# Altium schematic symbol library TC1264-3.3VDB.SchLib: 1 symbol
Pins are listed as number, name and electrical type; pins without a type are passive.

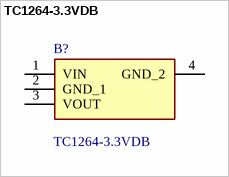
[diagram p0: symbol TC1264-3.3VDB]

## TC1264-3.3VDB
designator B?
LDO Regulator Pos 3.3V 0.8A Automotive 4-Pin(3+Tab) SOT-223 Tube; Manufacturer_Name: Microchip; Geometry.Height: 1.8mm; Manufacturer_Part_Number: TC1264-3.3VDB; Mouser Part Number: 579-TC1264-3.3VDB; Mouser Price/Stock: https://www.mouser.co.uk/ProductDetail/Microchip-Technology/TC1264-3.3VDB?qs=AkCjCAp%252BzjQSxS5e2ugTcA%3D%3D; Arrow Part Number: TC1264-3.3VDB; Arrow Price/Stock: https://www.arrow.com/en/products/tc1264-3.3vdb/microchip-technology?region=nac; Datasheet Link: http://ww1.microchip.com/downloads/en/devicedoc/21375d.pdf
footprint SOT230P700X180-4N
pins: 1 VIN, 2 GND_1, 3 VOUT, 4 GND_2